# Altium schematic symbol library ADS131M03IRUKT.SchLib: 1 symbol
Pins are listed as number, name and electrical type; pins without a type are passive.

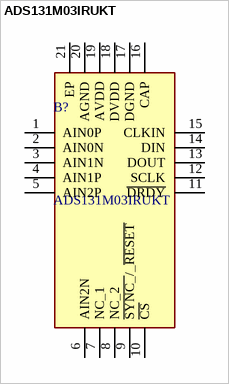
[diagram p0: symbol ADS131M03IRUKT]

## ADS131M03IRUKT
designator B?
Analog to Digital Converters - ADC 24-bit, 32-kSPS, 3-channel, simultaneous-sampling, delta-sigma ADC 20-WQFN -40 to 125; Manufacturer_Name: Texas Instruments; Geometry.Height: 0.8mm; TME Electronic Components Part Number: *; TME Electronic Components Price/Stock: *; Manufacturer_Part_Number: ADS131M03IRUKT; Datasheet Link: https://www.ti.com/lit/gpn/ads131m03
footprint QFN40P300X300X80-21N-D
pins: 1 AIN0P, 2 AIN0N, 3 AIN1N, 4 AIN1P, 5 AIN2P, 6 AIN2N, 7 NC_1, 8 NC_2, 9 ~{SYNC_}/_~{RESET}, 10 ~{CS}, 11 ~{DRDY}, 12 SCLK, 13 DOUT, 14 DIN, 15 CLKIN, 16 CAP, 17 DGND, 18 DVDD, 19 AVDD, 20 AGND, 21 EP